# EAGLE library part GROVE-4P-2.0-SMD-FEMALE-REINFORCE (library OPL5)
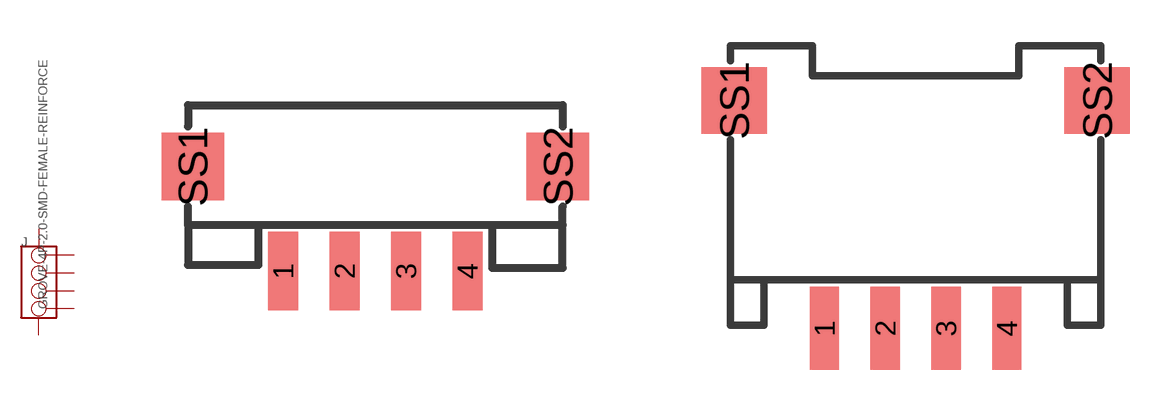
[diagram p18: symbol with the pads of 4P-SMD-2.0; footprints 4P-SMD-2.0, 4P-SMD-2.0-90D]

Designator prefix J

## GROVE-4P-2.0-SMD-FEMALE-REINFORCE-3470090P1  [4P-SMD-2.0]
1  1  out
2  2  out
3  3  out
4  4  out
SS1  SS1  out
SS2  SS2  out

## GROVE-4P-2.0-SMD-FEMALE-REINFORCE-3470120P1  [4P-SMD-2.0-90D]
Pads as for 4P-SMD-2.0

## Footprint 4P-SMD-2.0 (pad centres in mm)
3470090P1
smd 0.965 x 2.54: 1 -3,0; 2 -1,0; 3 1,0; 4 3,0
smd 2.032 x 2.184: SS1 -5.946,3.4; SS2 5.946,3.4

## Footprint 4P-SMD-2.0-90D (pad centres in mm)
3470120P1
smd 0.965 x 2.74: 1 -3,-0.1; 2 -1,-0.1; 3 1,-0.1; 4 3,-0.1
smd 2.159 x 2.184: SS1 -5.974,7.4; SS2 5.974,7.4